# Altium integrated library digital-v-a-meter.IntLib: 1 symbol
Pins are listed as number, name and electrical type; pins without a type are passive.

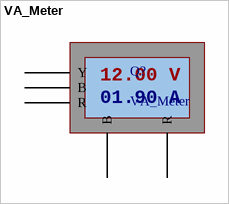
[diagram p0: symbol VA_Meter]

## VA_Meter
designator Q?
Digital V/A Meter
footprint VA_Meter
pins: 1 Y (power), 2 B (power), 3 R (power), 4 B, 5 R
text: 12.00 V; 01.90 A